# Altium footprint library MAX4460-piggyback-pcblib.PcbLib: 1 footprints
Each footprint in its own frame and in the unit in brackets; x right, y up, seen from the top. Pads: shape width x height; smd on the part's side, far side on the other; paste and mask are expansions set on the pad; w line width, h text height; cw(c..) or ccw(c..) is an arc to the next point about the centre after c.
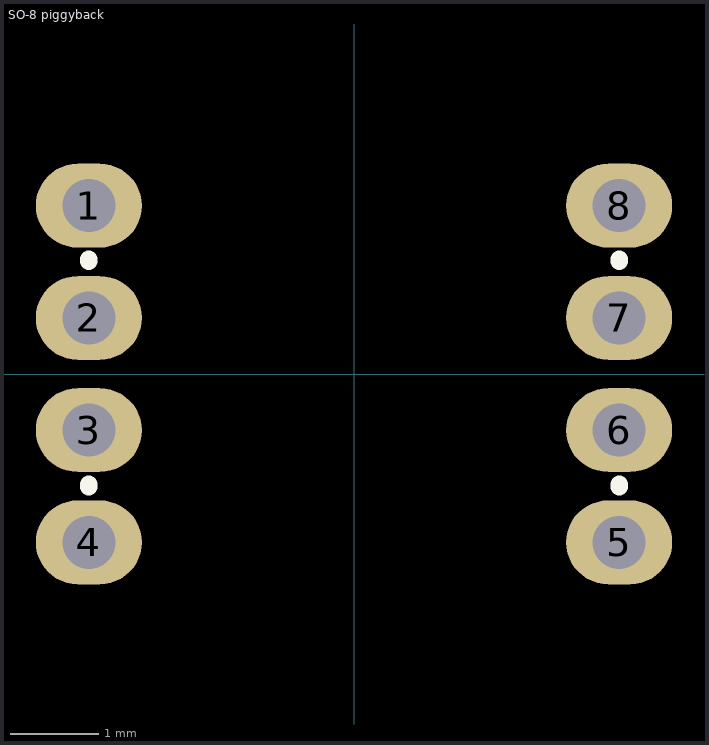
[diagram p0: the footprint, top view; thin cyan lines are the x and y axes]

## SO-8 piggyback [mm]
pads (8):
  oval 1.2x0.95 / inner oval 1.2x0.95 / far side oval 1.6x0.95 hole 0.6 paste-2539.97: 1(-3,1.905) 2(-3,0.635) 3(-3,-0.635) 4(-3,-1.905) 5(3,-1.905) 6(3,-0.635) 7(3,0.635) 8(3,1.905)
Top Overlay:
  lines w0.2: -3,-1.275 -3,-1.25 ; -3,1.275 -3,1.3 ; 3,-1.275 3,-1.25 ; 3,1.275 3,1.3